# Altium schematic symbol library CRCW251215K0FKEG.SchLib: 1 symbol
Pins are listed as number, name and electrical type; pins without a type are passive.

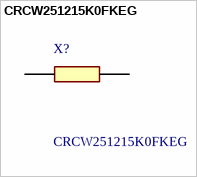
[diagram p0: symbol CRCW251215K0FKEG]

## CRCW251215K0FKEG
designator X?
VISHAY - CRCW251215K0FKEG - RESISTOR, THICK FILM CHIP, 15KOHM, 1W, 1%; Geometry.Height: 0.7mm; Manufacturer_Name: Vishay; Manufacturer_Part_Number: CRCW251215K0FKEG; Mouser Part Number: 71-CRCW2512-15K-E3; Mouser Price/Stock: https://www.mouser.co.uk/ProductDetail/Vishay-Dale/CRCW251215K0FKEG?qs=Z1AZHWO%2FsqI0c6vK0jJZww%3D%3D; Arrow Part Number: CRCW251215K0FKEG; Arrow Price/Stock: https://www.arrow.com/en/products/crcw251215k0fkeg/vishay?region=nac; Datasheet Link: http://www.vishay.com/docs/20035/dcrcwe3.pdf
footprint RESC6332X70N
pins: 1, 2